# EAGLE library part ARDUINO_NANO (library arduino_nano)
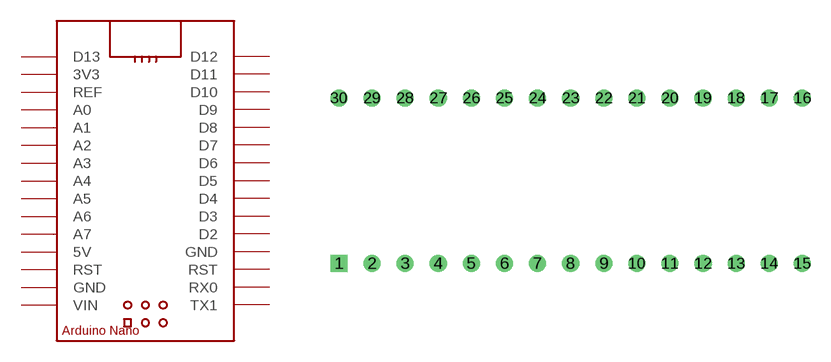
[diagram p0: symbol with the pads of ARDUINO_NANO; footprint ARDUINO_NANO]

Designator prefix -

## ARDUINO_NANO  [ARDUINO_NANO]
1  D13
2  3V3
3  REF
4  A0
5  A1
6  A2
7  A3
8  A4
9  A5
10  A6
11  A7
12  5V
13  RST
14  GND
15  VIN
16  TX1
17  RX0
18  RST
19  GND
20  D2
21  D3
22  D4
23  D5
24  D6
25  D7
26  D8
27  D9
28  D10
29  D11
30  D12

## Footprint ARDUINO_NANO (pad centres in mm)
drill 0.8 square: 1 -15.24,-5.08
drill 0.8: 2 -12.7,-5.08; 3 -10.16,-5.08; 4 -7.62,-5.08; 5 -5.08,-5.08; 6 -2.54,-5.08; 7 0,-5.08; 8 2.54,-5.08; 9 5.08,-5.08; 10 7.62,-5.08; 11 10.16,-5.08; 12 12.7,-5.08; 13 15.24,-5.08; 14 17.78,-5.08; 15 20.32,-5.08; 16 20.32,7.62; 17 17.78,7.62; 18 15.24,7.62; 19 12.7,7.62; 20 10.16,7.62; 21 7.62,7.62; 22 5.08,7.62; 23 2.54,7.62; 24 0,7.62; 25 -2.54,7.62; 26 -5.08,7.62; 27 -7.62,7.62; 28 -10.16,7.62; 29 -12.7,7.62; 30 -15.24,7.62